# Altium footprint library L_LQH32C.PcbLib: 1 footprints
Each footprint in its own frame and in the unit in brackets; x right, y up, seen from the top. Pads: shape width x height; smd on the part's side, far side on the other; paste and mask are expansions set on the pad; w line width, h text height; cw(c..) or ccw(c..) is an arc to the next point about the centre after c.
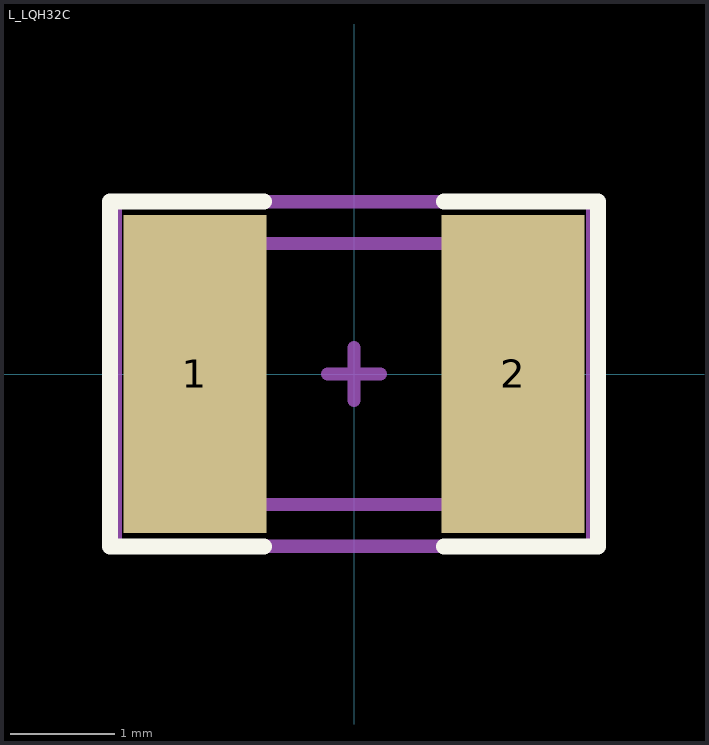
[diagram p0: the footprint, top view; thin cyan lines are the x and y axes]

## L_LQH32C [mil]
pads (2):
  rect 54x120 smd: 1(-60,0) 2(60,0)
Top Overlay:
  lines w6: -34,-65 -92,-65 -92,65 -34,65 ; 34,-65 92,-65 92,65 34,65
Mechanical 13:
  lines w5: -63.93,-49.21 62.05,-49.21 62.05,49.22 -63.93,49.22 -63.93,-49.21
Mechanical 15:
  lines w5: -10,0 10,0 ; 0,-10 0,10 ; -90,-65 90,-65 90,65 -90,65 -90,-65
Mechanical 17:
  text "'.Designator'" at -70,-40 h15
Mechanical 19:
  text "'.Comment'" at -70,-40 h15
3D body "User Library-LQH32PN_sw.step": height 61.02, standoff 0, extent -63.93,-49.21 62.05,49.22